# EAGLE library part 1-CUSTOM_VLA106-15242 (library Hybrid Driver)
VLA106-15252 Isolated DC/DC Converter Input: 12-18V Output: +24, 100mA (2.4W) 2500Vrms isolation
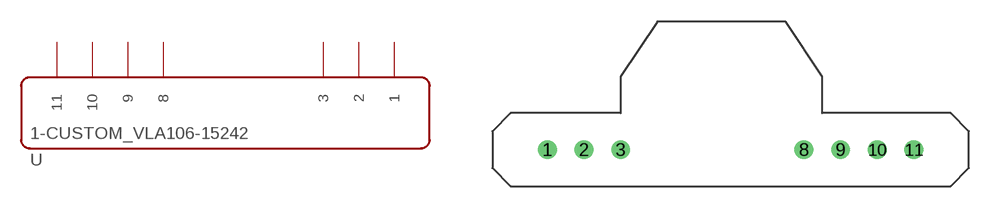
[diagram p0: symbol with the pads of 1-CUSTOM_ISOLATED_DC_DC_CONVERTER; footprint 1-CUSTOM_ISOLATED_DC_DC_CONVERTER]

Designator prefix U

## 1-CUSTOM_VLA106-15242  [1-CUSTOM_ISOLATED_DC_DC_CONVERTER]
1  1
2  2
3  3
8  8
9  9
10  10
11  11

## Footprint 1-CUSTOM_ISOLATED_DC_DC_CONVERTER (pad centres in mm)
drill 0.8: 1 3.81,3.81; 2 6.35,3.81; 3 8.89,3.81; 8 21.59,3.81; 9 24.13,3.81; 10 26.67,3.81; 11 29.21,3.81